# Altium schematic symbol library HFJ11-1G01E-L12RL.SchLib: 1 symbol
Pins are listed as number, name and electrical type; pins without a type are passive.

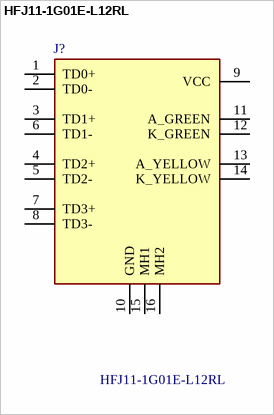
[diagram p0: symbol HFJ11-1G01E-L12RL]

## HFJ11-1G01E-L12RL
designator J?
Modular Connectors / Ethernet Connectors GIGABIT 1x1 Tab Down RJ45 w/mag Y/G LED 350uH min 0C ~ 70C; Manufacturer_Name: Halo Electronics; Geometry.Height: 15.64mm; Mouser Part Number: 493-HFJ111G01EL12RL; Mouser Price/Stock: https://www.mouser.co.uk/ProductDetail/HALO-Electronics/HFJ11-1G01E-L12RL?qs=8uu3sA0mUdsaxIpTwn1s5A%3D%3D; Manufacturer_Part_Number: HFJ11-1G01E-L12RL; Datasheet Link: https://www.haloelectronics.com/pdf/fastjack-gigabit.pdf
footprint HFJ111G01EL12RL
pins: 1 TD0+, 2 TD0-, 3 TD1+, 4 TD2+, 5 TD2-, 6 TD1-, 7 TD3+, 8 TD3-, 9 VCC, 10 GND, 11 A_GREEN, 12 K_GREEN, 13 A_YELLOW, 14 K_YELLOW, 15 MH1, 16 MH2